# EAGLE library part SI4497DY-T1-GE3 (library SI4497DY-T1-GE3)
MOSFET -30V Vds 20V Vgs SO-8 Source: Datasheet <https://www.vishay.com/docs/65748/si4497dy.pdf>
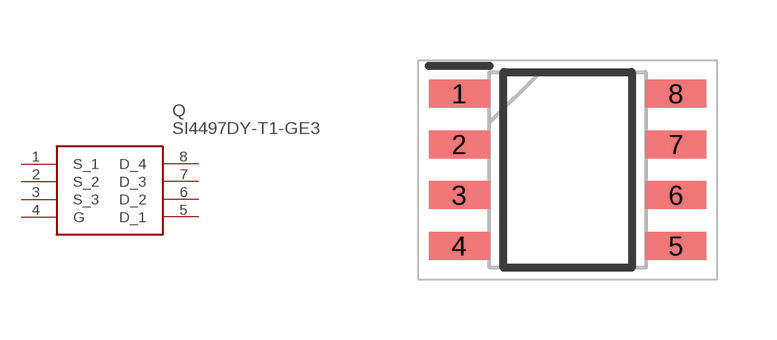
[diagram p0: symbol with the pads of SOIC127P600X175-8N; footprint SOIC127P600X175-8N]

Designator prefix Q

## SI4497DY-T1-GE3 (Arrow_Part_Number: SI4497DY-T1-GE3; Arrow_Price-Stock: https://www.arrow.com/en/products/si4497dy-t1-ge3/vishay?utm_currency=USD&region=europe; Description: MOSFET -30V Vds 20V Vgs SO-8; Height: 1.75mm; Manufacturer_Name: Vishay; Manufacturer_Part_Number: SI4497DY-T1-GE3; Mouser_Part_Number: 781-SI4497DY-T1-GE3; Mouser_Price-Stock: https://www.mouser.co.uk/ProductDetail/Vishay-Semiconductors/SI4497DY-T1-GE3?qs=WX95TUc1y57nwgYqN479sg%3D%3D)  [SOIC127P600X175-8N]
1  S_1
2  S_2
3  S_3
4  G
5  D_1
6  D_2
7  D_3
8  D_4

## Footprint SOIC127P600X175-8N (pad centres in mm)
SOIC (NARROW) 8-LEAD
smd 1.525 x 0.7: 1 -2.712,1.905; 2 -2.712,0.635; 3 -2.712,-0.635; 4 -2.712,-1.905; 5 2.712,-1.905; 6 2.712,-0.635; 7 2.712,0.635; 8 2.712,1.905